# Altium integrated library TI Amplifiers and Linear Operational Amplifier High Speed.IntLib: 1100 symbols (part 10 of 44)
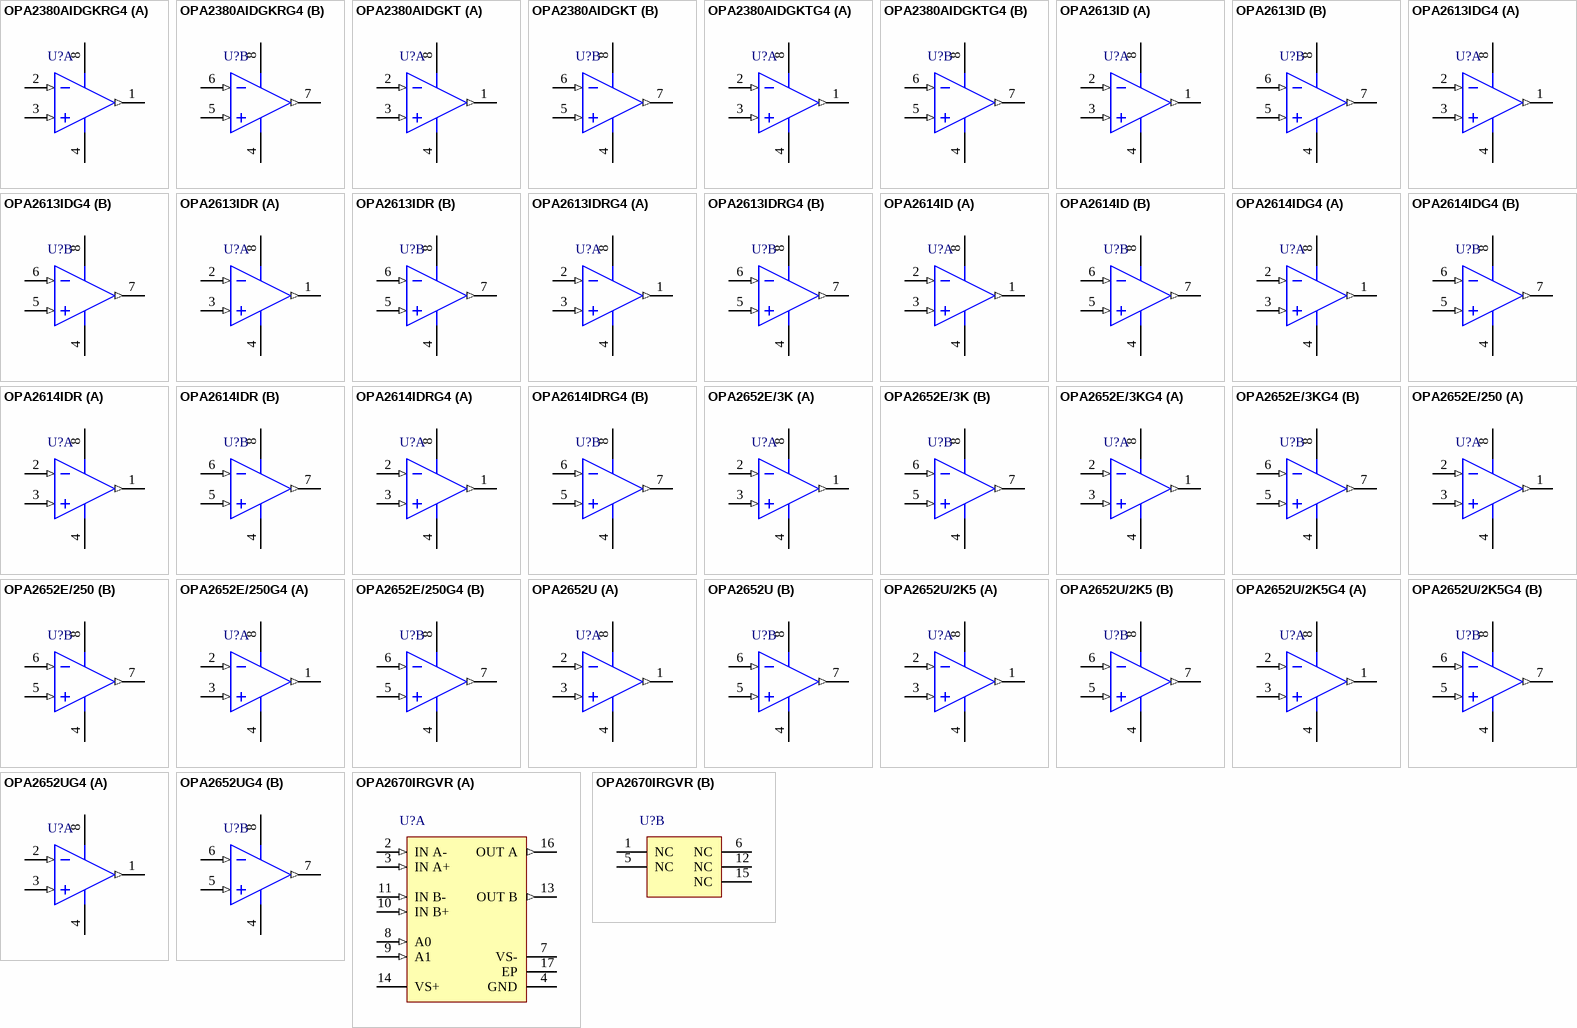
[diagram p60: symbols OPA2380AIDGKRG4 to OPA2670IRGVR]

## OPA2613ID
designator U?
Dual Wideband, High-Output Current, Operational Amplifier with Current Limit, 5 to 12 V, -40 to 85 degC, 8-pin SOIC (D8), Green (RoHS & no Sb/Br); Manufacturer: Texas Instruments; PartNumber: OPA2613ID; 2nd Harmonic(dBc): 95; 3rd Harmonic(dBc): 97; @ MHz: 1; BW @ Acl(MHz): 230; Diff Gain(%): 0.02; Diff Phase(deg): 0.03; Iib(Max)(nA): 14500; Io(Typ)(mA): 350; Iq per channel(Max)(mA): 6.5; Number of Channels: 2; Settling Time (0.1%)(Typ)(ns): 40; Slew Rate(Typ)(V/us): 70; Sub Family: High Output Current Amplifier (>=50mA), High Speed Amplifier (>=50MHz); THD (Fc is 1 MHz)(Typ)(dB): -83; Vn at Flatband(Typ)(nV/rtHz): 1.8; Vs(Max)(V): 12; Vs(Min)(V): 5; DatasheetVersion: SBOS249H; PackageVersion: 4040047-3/M, 06/2011; PackageReference: D8; PackageDescription: 8-Pin Plastic Small Outline, Body 4.9 x 3.9 mm, Pitch 1.27 mm; Supplier 1: Digi-Key; Supplier Part Number 1: 296-16916-5-ND; Supplier 2: Newark; Supplier Part Number 2: 01J0594; Supplier 3: Mouser; Supplier Part Number 3: 595-OPA2613ID; Acl, min stable gain(V/V): 1; Eco-Plan: Green (RoHS & no Sb/Br); Vio(Max)(mV): 1; Mounting Technology: Surface Mount; Code_JEDEC: MS-012; ComponentLink1Description: Manufacturer URL; ComponentLink1URL: http://www.ti.com/; ComponentLink2Description: Datasheet; ComponentLink2URL: http://www.ti.com/general/docs/lit/getliterature.tsp?genericPartNumber=OPA2613&fileType=pdf; ComponentLink3Description: Package Specification; ComponentLink3URL: http://www.ti.com/litv/pdf/msoi002j
footprint TI-D8_N (SOIC, 8-Leads, Body 4.9x3.9mm, Pitch 1.27mm, IPC Medium Density)
footprint TI-D8_L (SOIC, 8-Leads, Body 4.9x3.9mm, Pitch 1.27mm, IPC High Density)
footprint TI-D8_M (SOIC, 8-Leads, Body 4.9x3.9mm, Pitch 1.27mm, IPC Low Density)
pins on every part: 4 VS- (power), 8 VS+ (power)
part A pins: 1 OUT A (out), 2 IN A- (in), 3 IN A+ (in)
part B pins: 5 IN B+ (in), 6 IN B- (in), 7 OUT B (out)

## OPA2613IDG4
designator U?
Dual Wideband, High-Output Current, Operational Amplifier with Current Limit, 5 to 12 V, -40 to 85 degC, 8-pin SOIC (D8), Green (RoHS & no Sb/Br); Manufacturer: Texas Instruments; PartNumber: OPA2613IDG4; 2nd Harmonic(dBc): 95; 3rd Harmonic(dBc): 97; @ MHz: 1; BW @ Acl(MHz): 230; Diff Gain(%): 0.02; Diff Phase(deg): 0.03; Iib(Max)(nA): 14500; Io(Typ)(mA): 350; Iq per channel(Max)(mA): 6.5; Number of Channels: 2; Settling Time (0.1%)(Typ)(ns): 40; Slew Rate(Typ)(V/us): 70; Sub Family: High Output Current Amplifier (>=50mA), High Speed Amplifier (>=50MHz); THD (Fc is 1 MHz)(Typ)(dB): -83; Vn at Flatband(Typ)(nV/rtHz): 1.8; Vs(Max)(V): 12; Vs(Min)(V): 5; DatasheetVersion: SBOS249H; PackageVersion: 4040047-3/M, 06/2011; PackageReference: D8; PackageDescription: 8-Pin Plastic Small Outline, Body 4.9 x 3.9 mm, Pitch 1.27 mm; Supplier 1: Digi-Key; Supplier Part Number 1: OPA2613IDG4-ND; Supplier 2: Mouser; Supplier Part Number 2: 595-OPA2613IDG4; Acl, min stable gain(V/V): 1; Eco-Plan: Green (RoHS & no Sb/Br); Vio(Max)(mV): 1; Mounting Technology: Surface Mount; Code_JEDEC: MS-012; ComponentLink1Description: Manufacturer URL; ComponentLink1URL: http://www.ti.com/; ComponentLink2Description: Datasheet; ComponentLink2URL: http://www.ti.com/general/docs/lit/getliterature.tsp?genericPartNumber=OPA2613&fileType=pdf; ComponentLink3Description: Package Specification; ComponentLink3URL: http://www.ti.com/litv/pdf/msoi002j
footprint TI-D8_N (SOIC, 8-Leads, Body 4.9x3.9mm, Pitch 1.27mm, IPC Medium Density)
footprint TI-D8_L (SOIC, 8-Leads, Body 4.9x3.9mm, Pitch 1.27mm, IPC High Density)
footprint TI-D8_M (SOIC, 8-Leads, Body 4.9x3.9mm, Pitch 1.27mm, IPC Low Density)
pins on every part: 4 VS- (power), 8 VS+ (power)
part A pins: 1 OUT A (out), 2 IN A- (in), 3 IN A+ (in)
part B pins: 5 IN B+ (in), 6 IN B- (in), 7 OUT B (out)

## OPA2613IDR
designator U?
Dual Wideband, High-Output Current, Operational Amplifier with Current Limit, 5 to 12 V, -40 to 85 degC, 8-pin SOIC (D8), Green (RoHS & no Sb/Br); Manufacturer: Texas Instruments; PartNumber: OPA2613IDR; 2nd Harmonic(dBc): 95; 3rd Harmonic(dBc): 97; @ MHz: 1; BW @ Acl(MHz): 230; Diff Gain(%): 0.02; Diff Phase(deg): 0.03; Iib(Max)(nA): 14500; Io(Typ)(mA): 350; Iq per channel(Max)(mA): 6.5; Number of Channels: 2; Settling Time (0.1%)(Typ)(ns): 40; Slew Rate(Typ)(V/us): 70; Sub Family: High Output Current Amplifier (>=50mA), High Speed Amplifier (>=50MHz); THD (Fc is 1 MHz)(Typ)(dB): -83; Vn at Flatband(Typ)(nV/rtHz): 1.8; Vs(Max)(V): 12; Vs(Min)(V): 5; DatasheetVersion: SBOS249H; PackageVersion: 4040047-3/M, 06/2011; PackageReference: D8; PackageDescription: 8-Pin Plastic Small Outline, Body 4.9 x 3.9 mm, Pitch 1.27 mm; Supplier 1: Digi-Key; Supplier Part Number 1: OPA2613IDR-ND; Supplier 2: Mouser; Supplier Part Number 2: 595-OPA2613IDR; Acl, min stable gain(V/V): 1; Eco-Plan: Green (RoHS & no Sb/Br); Vio(Max)(mV): 1; Mounting Technology: Surface Mount; Code_JEDEC: MS-012; ComponentLink1Description: Manufacturer URL; ComponentLink1URL: http://www.ti.com/; ComponentLink2Description: Datasheet; ComponentLink2URL: http://www.ti.com/general/docs/lit/getliterature.tsp?genericPartNumber=OPA2613&fileType=pdf; ComponentLink3Description: Package Specification; ComponentLink3URL: http://www.ti.com/litv/pdf/msoi002j
footprint TI-D8_N (SOIC, 8-Leads, Body 4.9x3.9mm, Pitch 1.27mm, IPC Medium Density)
footprint TI-D8_L (SOIC, 8-Leads, Body 4.9x3.9mm, Pitch 1.27mm, IPC High Density)
footprint TI-D8_M (SOIC, 8-Leads, Body 4.9x3.9mm, Pitch 1.27mm, IPC Low Density)
pins on every part: 4 VS- (power), 8 VS+ (power)
part A pins: 1 OUT A (out), 2 IN A- (in), 3 IN A+ (in)
part B pins: 5 IN B+ (in), 6 IN B- (in), 7 OUT B (out)

## OPA2613IDRG4
designator U?
Dual Wideband, High-Output Current, Operational Amplifier with Current Limit, 5 to 12 V, -40 to 85 degC, 8-pin SOIC (D8), Green (RoHS & no Sb/Br); Manufacturer: Texas Instruments; PartNumber: OPA2613IDRG4; 2nd Harmonic(dBc): 95; 3rd Harmonic(dBc): 97; @ MHz: 1; BW @ Acl(MHz): 230; Diff Gain(%): 0.02; Diff Phase(deg): 0.03; Iib(Max)(nA): 14500; Io(Typ)(mA): 350; Iq per channel(Max)(mA): 6.5; Number of Channels: 2; Settling Time (0.1%)(Typ)(ns): 40; Slew Rate(Typ)(V/us): 70; Sub Family: High Output Current Amplifier (>=50mA), High Speed Amplifier (>=50MHz); THD (Fc is 1 MHz)(Typ)(dB): -83; Vn at Flatband(Typ)(nV/rtHz): 1.8; Vs(Max)(V): 12; Vs(Min)(V): 5; DatasheetVersion: SBOS249H; PackageVersion: 4040047-3/M, 06/2011; PackageReference: D8; PackageDescription: 8-Pin Plastic Small Outline, Body 4.9 x 3.9 mm, Pitch 1.27 mm; Supplier 1: Digi-Key; Supplier Part Number 1: OPA2613IDRG4-ND; Supplier 2: Newark; Supplier Part Number 2: 73K9241; Supplier 3: Mouser; Supplier Part Number 3: 595-OPA2613IDRG4; Acl, min stable gain(V/V): 1; Eco-Plan: Green (RoHS & no Sb/Br); Vio(Max)(mV): 1; Mounting Technology: Surface Mount; Code_JEDEC: MS-012; ComponentLink1Description: Manufacturer URL; ComponentLink1URL: http://www.ti.com/; ComponentLink2Description: Datasheet; ComponentLink2URL: http://www.ti.com/general/docs/lit/getliterature.tsp?genericPartNumber=OPA2613&fileType=pdf; ComponentLink3Description: Package Specification; ComponentLink3URL: http://www.ti.com/litv/pdf/msoi002j
footprint TI-D8_N (SOIC, 8-Leads, Body 4.9x3.9mm, Pitch 1.27mm, IPC Medium Density)
footprint TI-D8_L (SOIC, 8-Leads, Body 4.9x3.9mm, Pitch 1.27mm, IPC High Density)
footprint TI-D8_M (SOIC, 8-Leads, Body 4.9x3.9mm, Pitch 1.27mm, IPC Low Density)
pins on every part: 4 VS- (power), 8 VS+ (power)
part A pins: 1 OUT A (out), 2 IN A- (in), 3 IN A+ (in)
part B pins: 5 IN B+ (in), 6 IN B- (in), 7 OUT B (out)

## OPA2614ID
designator U?
Dual, High Gain Bandwidth, High Output Current, Operational Amplifier with Current Limit, 5 to 12 V, -40 to 85 degC, 8-pin SOIC (D8), Green (RoHS & no Sb/Br); Manufacturer: Texas Instruments; PartNumber: OPA2614ID; 2nd Harmonic(dBc): 92; 3rd Harmonic(dBc): 110; @ MHz: 1; Acl, min stable gain(V/V): 2; BW @ Acl(MHz): 180; Iib(Max)(nA): 14500; Io(Typ)(mA): 350; Iq per channel(Max)(mA): 6.5; Settling Time (0.1%)(Typ)(ns): 35; Slew Rate(Typ)(V/us): 145; Sub Family: High Output Current Amplifier (>=50mA), High Speed Amplifier (>=50MHz); THD (Fc is 1 MHz)(Typ)(dB): -75; Vn at Flatband(Typ)(nV/rtHz): 1.8; Vs(Max)(V): 12; Vs(Min)(V): 5; DatasheetVersion: SBOS305D; PackageVersion: 4040047-3/M, 06/2011; PackageReference: D8; PackageDescription: 8-Pin Plastic Small Outline, Body 4.9 x 3.9 mm, Pitch 1.27 mm; Supplier 1: Digi-Key; Supplier Part Number 1: 296-17127-5-ND; Supplier 2: Newark; Supplier Part Number 2: 21J8852; Supplier 3: Mouser; Supplier Part Number 3: 595-OPA2614ID; Eco-Plan: Green (RoHS & no Sb/Br); Number of Channels: 2; Vio(Max)(mV): 1; Mounting Technology: Surface Mount; Code_JEDEC: MS-012; ComponentLink1Description: Manufacturer URL; ComponentLink1URL: http://www.ti.com/; ComponentLink2Description: Datasheet; ComponentLink2URL: http://www.ti.com/general/docs/lit/getliterature.tsp?genericPartNumber=OPA2614&fileType=pdf; ComponentLink3Description: Package Specification; ComponentLink3URL: http://www.ti.com/litv/pdf/msoi002j
footprint TI-D8_N (SOIC, 8-Leads, Body 4.9x3.9mm, Pitch 1.27mm, IPC Medium Density)
footprint TI-D8_L (SOIC, 8-Leads, Body 4.9x3.9mm, Pitch 1.27mm, IPC High Density)
footprint TI-D8_M (SOIC, 8-Leads, Body 4.9x3.9mm, Pitch 1.27mm, IPC Low Density)
pins on every part: 4 VS- (power), 8 VS+ (power)
part A pins: 1 OUT A (out), 2 IN A- (in), 3 IN A+ (in)
part B pins: 5 IN B+ (in), 6 IN B- (in), 7 OUT B (out)

## OPA2614IDG4
designator U?
Dual, High Gain Bandwidth, High Output Current, Operational Amplifier with Current Limit, 5 to 12 V, -40 to 85 degC, 8-pin SOIC (D8), Green (RoHS & no Sb/Br); Manufacturer: Texas Instruments; PartNumber: OPA2614IDG4; 2nd Harmonic(dBc): 92; 3rd Harmonic(dBc): 110; @ MHz: 1; Acl, min stable gain(V/V): 2; BW @ Acl(MHz): 180; Iib(Max)(nA): 14500; Io(Typ)(mA): 350; Iq per channel(Max)(mA): 6.5; Settling Time (0.1%)(Typ)(ns): 35; Slew Rate(Typ)(V/us): 145; Sub Family: High Output Current Amplifier (>=50mA), High Speed Amplifier (>=50MHz); THD (Fc is 1 MHz)(Typ)(dB): -75; Vn at Flatband(Typ)(nV/rtHz): 1.8; Vs(Max)(V): 12; Vs(Min)(V): 5; DatasheetVersion: SBOS305D; PackageVersion: 4040047-3/M, 06/2011; PackageReference: D8; PackageDescription: 8-Pin Plastic Small Outline, Body 4.9 x 3.9 mm, Pitch 1.27 mm; Supplier 1: Digi-Key; Supplier Part Number 1: OPA2614IDG4-ND; Supplier 2: Mouser; Supplier Part Number 2: 595-OPA2614IDG4; Eco-Plan: Green (RoHS & no Sb/Br); Number of Channels: 2; Vio(Max)(mV): 1; Mounting Technology: Surface Mount; Code_JEDEC: MS-012; ComponentLink1Description: Manufacturer URL; ComponentLink1URL: http://www.ti.com/; ComponentLink2Description: Datasheet; ComponentLink2URL: http://www.ti.com/general/docs/lit/getliterature.tsp?genericPartNumber=OPA2614&fileType=pdf; ComponentLink3Description: Package Specification; ComponentLink3URL: http://www.ti.com/litv/pdf/msoi002j
footprint TI-D8_N (SOIC, 8-Leads, Body 4.9x3.9mm, Pitch 1.27mm, IPC Medium Density)
footprint TI-D8_L (SOIC, 8-Leads, Body 4.9x3.9mm, Pitch 1.27mm, IPC High Density)
footprint TI-D8_M (SOIC, 8-Leads, Body 4.9x3.9mm, Pitch 1.27mm, IPC Low Density)
pins on every part: 4 VS- (power), 8 VS+ (power)
part A pins: 1 OUT A (out), 2 IN A- (in), 3 IN A+ (in)
part B pins: 5 IN B+ (in), 6 IN B- (in), 7 OUT B (out)

## OPA2614IDR
designator U?
Dual, High Gain Bandwidth, High Output Current, Operational Amplifier with Current Limit, 5 to 12 V, -40 to 85 degC, 8-pin SOIC (D8), Green (RoHS & no Sb/Br); Manufacturer: Texas Instruments; PartNumber: OPA2614IDR; 2nd Harmonic(dBc): 92; 3rd Harmonic(dBc): 110; @ MHz: 1; Acl, min stable gain(V/V): 2; BW @ Acl(MHz): 180; Iib(Max)(nA): 14500; Io(Typ)(mA): 350; Iq per channel(Max)(mA): 6.5; Settling Time (0.1%)(Typ)(ns): 35; Slew Rate(Typ)(V/us): 145; Sub Family: High Output Current Amplifier (>=50mA), High Speed Amplifier (>=50MHz); THD (Fc is 1 MHz)(Typ)(dB): -75; Vn at Flatband(Typ)(nV/rtHz): 1.8; Vs(Max)(V): 12; Vs(Min)(V): 5; DatasheetVersion: SBOS305D; PackageVersion: 4040047-3/M, 06/2011; PackageReference: D8; PackageDescription: 8-Pin Plastic Small Outline, Body 4.9 x 3.9 mm, Pitch 1.27 mm; Supplier 1: Digi-Key; Supplier Part Number 1: OPA2614IDR-ND; Supplier 2: Mouser; Supplier Part Number 2: 595-OPA2614IDR; Eco-Plan: Green (RoHS & no Sb/Br); Number of Channels: 2; Vio(Max)(mV): 1; Mounting Technology: Surface Mount; Code_JEDEC: MS-012; ComponentLink1Description: Manufacturer URL; ComponentLink1URL: http://www.ti.com/; ComponentLink2Description: Datasheet; ComponentLink2URL: http://www.ti.com/general/docs/lit/getliterature.tsp?genericPartNumber=OPA2614&fileType=pdf; ComponentLink3Description: Package Specification; ComponentLink3URL: http://www.ti.com/litv/pdf/msoi002j
footprint TI-D8_N (SOIC, 8-Leads, Body 4.9x3.9mm, Pitch 1.27mm, IPC Medium Density)
footprint TI-D8_L (SOIC, 8-Leads, Body 4.9x3.9mm, Pitch 1.27mm, IPC High Density)
footprint TI-D8_M (SOIC, 8-Leads, Body 4.9x3.9mm, Pitch 1.27mm, IPC Low Density)
pins on every part: 4 VS- (power), 8 VS+ (power)
part A pins: 1 OUT A (out), 2 IN A- (in), 3 IN A+ (in)
part B pins: 5 IN B+ (in), 6 IN B- (in), 7 OUT B (out)

## OPA2614IDRG4
designator U?
Dual, High Gain Bandwidth, High Output Current, Operational Amplifier with Current Limit, 5 to 12 V, -40 to 85 degC, 8-pin SOIC (D8), Green (RoHS & no Sb/Br); Manufacturer: Texas Instruments; PartNumber: OPA2614IDRG4; 2nd Harmonic(dBc): 92; 3rd Harmonic(dBc): 110; @ MHz: 1; Acl, min stable gain(V/V): 2; BW @ Acl(MHz): 180; Iib(Max)(nA): 14500; Io(Typ)(mA): 350; Iq per channel(Max)(mA): 6.5; Settling Time (0.1%)(Typ)(ns): 35; Slew Rate(Typ)(V/us): 145; Sub Family: High Output Current Amplifier (>=50mA), High Speed Amplifier (>=50MHz); THD (Fc is 1 MHz)(Typ)(dB): -75; Vn at Flatband(Typ)(nV/rtHz): 1.8; Vs(Max)(V): 12; Vs(Min)(V): 5; DatasheetVersion: SBOS305D; PackageVersion: 4040047-3/M, 06/2011; PackageReference: D8; PackageDescription: 8-Pin Plastic Small Outline, Body 4.9 x 3.9 mm, Pitch 1.27 mm; Supplier 1: Digi-Key; Supplier Part Number 1: OPA2614IDRG4-ND; Supplier 2: Mouser; Supplier Part Number 2: 595-OPA2614IDRG4; Eco-Plan: Green (RoHS & no Sb/Br); Number of Channels: 2; Vio(Max)(mV): 1; Mounting Technology: Surface Mount; Code_JEDEC: MS-012; ComponentLink1Description: Manufacturer URL; ComponentLink1URL: http://www.ti.com/; ComponentLink2Description: Datasheet; ComponentLink2URL: http://www.ti.com/general/docs/lit/getliterature.tsp?genericPartNumber=OPA2614&fileType=pdf; ComponentLink3Description: Package Specification; ComponentLink3URL: http://www.ti.com/litv/pdf/msoi002j
footprint TI-D8_N (SOIC, 8-Leads, Body 4.9x3.9mm, Pitch 1.27mm, IPC Medium Density)
footprint TI-D8_L (SOIC, 8-Leads, Body 4.9x3.9mm, Pitch 1.27mm, IPC High Density)
footprint TI-D8_M (SOIC, 8-Leads, Body 4.9x3.9mm, Pitch 1.27mm, IPC Low Density)
pins on every part: 4 VS- (power), 8 VS+ (power)
part A pins: 1 OUT A (out), 2 IN A- (in), 3 IN A+ (in)
part B pins: 5 IN B+ (in), 6 IN B- (in), 7 OUT B (out)

## OPA2652E/3K
designator U?
SpeedPlus(TM) Dual, 700 MHz, Voltage-Feedback Operational Amplifier, 6 to 12 V, -40 to 85 degC, 8-pin SOP (DCN8), Green (RoHS & no Sb/Br); Manufacturer: Texas Instruments; PartNumber: OPA2652E/3K; 2nd Harmonic(dBc): 83; 3rd Harmonic(dBc): 85; @ MHz: 5; Acl, min stable gain(V/V): 1; BW @ Acl(MHz): 700; Diff Gain(%): 0.05; Diff Phase(deg): 0.03; Iib(Max)(nA): 25000; Io(Typ)(mA): 140; Iq per channel(Max)(mA): 7.75; Number of Channels: 2; Slew Rate(Typ)(V/us): 335; Sub Family: High Output Current Amplifier (>=50mA), High Speed Amplifier (>=50MHz); THD (Fc is 1 MHz)(Typ)(dB): -77; Vio(Max)(mV): 7; Vn at Flatband(Typ)(nV/rtHz): 8; Vs(Max)(V): 12; Vs(Min)(V): 6; DatasheetVersion: SBOS125A; PackageVersion: 4202106/D, 11/2009; PackageReference: DCN8; PackageDescription: 8-Pin Plastic Small Outline, Body 1.6 x 2.9 mm, Pitch 0.65 mm; Supplier 1: Digi-Key; Supplier Part Number 1: OPA2652E/3K-ND; Supplier 2: Mouser; Supplier Part Number 2: 595-OPA2652E/3K; Eco-Plan: Green (RoHS & no Sb/Br); Mounting Technology: Surface Mount; Code_JEDEC: MO-178; ComponentLink1Description: Manufacturer URL; ComponentLink1URL: http://www.ti.com/; ComponentLink2Description: Datasheet; ComponentLink2URL: http://www.ti.com/general/docs/lit/getliterature.tsp?genericPartNumber=OPA2652&fileType=pdf; ComponentLink3Description: Package Specification; ComponentLink3URL: http://www.ti.com/lit/ml/mpds099c/mpds099c.pdf
footprint TI-DCN8_N (SOP, 8-Leads, Body 2.9x1.6mm, Pitch 0.65mm, IPC Medium Density)
footprint TI-DCN8_L (SOP, 8-Leads, Body 2.9x1.6mm, Pitch 0.65mm, IPC High Density)
footprint TI-DCN8_M (SOP, 8-Leads, Body 2.9x1.6mm, Pitch 0.65mm, IPC Low Density)
pins on every part: 4 VS- (power), 8 VS+ (power)
part A pins: 1 OUT A (out), 2 IN A- (in), 3 IN A+ (in)
part B pins: 5 IN B+ (in), 6 IN B- (in), 7 OUT B (out)

## OPA2652E/3KG4
designator U?
SpeedPlus(TM) Dual, 700 MHz, Voltage-Feedback Operational Amplifier, 6 to 12 V, -40 to 85 degC, 8-pin SOP (DCN8), Green (RoHS & no Sb/Br); Manufacturer: Texas Instruments; PartNumber: OPA2652E/3KG4; 2nd Harmonic(dBc): 83; 3rd Harmonic(dBc): 85; @ MHz: 5; Acl, min stable gain(V/V): 1; BW @ Acl(MHz): 700; Diff Gain(%): 0.05; Diff Phase(deg): 0.03; Iib(Max)(nA): 25000; Io(Typ)(mA): 140; Iq per channel(Max)(mA): 7.75; Number of Channels: 2; Slew Rate(Typ)(V/us): 335; Sub Family: High Output Current Amplifier (>=50mA), High Speed Amplifier (>=50MHz); THD (Fc is 1 MHz)(Typ)(dB): -77; Vio(Max)(mV): 7; Vn at Flatband(Typ)(nV/rtHz): 8; Vs(Max)(V): 12; Vs(Min)(V): 6; DatasheetVersion: SBOS125A; PackageVersion: 4202106/D, 11/2009; PackageReference: DCN8; PackageDescription: 8-Pin Plastic Small Outline, Body 1.6 x 2.9 mm, Pitch 0.65 mm; Supplier 1: Digi-Key; Supplier Part Number 1: OPA2652E/3KG4-ND; Supplier 2: Newark; Supplier Part Number 2: 03M9394; Supplier 3: Mouser; Supplier Part Number 3: 595-OPA2652E/3KG4; Eco-Plan: Green (RoHS & no Sb/Br); Mounting Technology: Surface Mount; Code_JEDEC: MO-178; ComponentLink1Description: Manufacturer URL; ComponentLink1URL: http://www.ti.com/; ComponentLink2Description: Datasheet; ComponentLink2URL: http://www.ti.com/general/docs/lit/getliterature.tsp?genericPartNumber=OPA2652&fileType=pdf; ComponentLink3Description: Package Specification; ComponentLink3URL: http://www.ti.com/lit/ml/mpds099c/mpds099c.pdf
footprint TI-DCN8_N (SOP, 8-Leads, Body 2.9x1.6mm, Pitch 0.65mm, IPC Medium Density)
footprint TI-DCN8_L (SOP, 8-Leads, Body 2.9x1.6mm, Pitch 0.65mm, IPC High Density)
footprint TI-DCN8_M (SOP, 8-Leads, Body 2.9x1.6mm, Pitch 0.65mm, IPC Low Density)
pins on every part: 4 VS- (power), 8 VS+ (power)
part A pins: 1 OUT A (out), 2 IN A- (in), 3 IN A+ (in)
part B pins: 5 IN B+ (in), 6 IN B- (in), 7 OUT B (out)

## OPA2652E/250
designator U?
SpeedPlus(TM) Dual, 700 MHz, Voltage-Feedback Operational Amplifier, 6 to 12 V, -40 to 85 degC, 8-pin SOP (DCN8), Green (RoHS & no Sb/Br); Manufacturer: Texas Instruments; PartNumber: OPA2652E/250; 2nd Harmonic(dBc): 83; 3rd Harmonic(dBc): 85; @ MHz: 5; Acl, min stable gain(V/V): 1; BW @ Acl(MHz): 700; Diff Gain(%): 0.05; Diff Phase(deg): 0.03; Iib(Max)(nA): 25000; Io(Typ)(mA): 140; Iq per channel(Max)(mA): 7.75; Number of Channels: 2; Slew Rate(Typ)(V/us): 335; Sub Family: High Output Current Amplifier (>=50mA), High Speed Amplifier (>=50MHz); THD (Fc is 1 MHz)(Typ)(dB): -77; Vio(Max)(mV): 7; Vn at Flatband(Typ)(nV/rtHz): 8; Vs(Max)(V): 12; Vs(Min)(V): 6; DatasheetVersion: SBOS125A; PackageVersion: 4202106/D, 11/2009; PackageReference: DCN8; PackageDescription: 8-Pin Plastic Small Outline, Body 1.6 x 2.9 mm, Pitch 0.65 mm; Supplier 1: Digi-Key; Supplier Part Number 1: OPA2652ETR-ND; Supplier 2: Digi-Key; Supplier Part Number 2: OPA2652ECT-ND; Supplier 3: Digi-Key; Supplier Part Number 3: OPA2652EDKR-ND; Supplier 4: Newark; Supplier Part Number 4: 75C4770; Supplier 5: Mouser; Supplier Part Number 5: 595-OPA2652E/250; Eco-Plan: Green (RoHS & no Sb/Br); Mounting Technology: Surface Mount; Code_JEDEC: MO-178; ComponentLink1Description: Manufacturer URL; ComponentLink1URL: http://www.ti.com/; ComponentLink2Description: Datasheet; ComponentLink2URL: http://www.ti.com/general/docs/lit/getliterature.tsp?genericPartNumber=OPA2652&fileType=pdf; ComponentLink3Description: Package Specification; ComponentLink3URL: http://www.ti.com/lit/ml/mpds099c/mpds099c.pdf
footprint TI-DCN8_N (SOP, 8-Leads, Body 2.9x1.6mm, Pitch 0.65mm, IPC Medium Density)
footprint TI-DCN8_L (SOP, 8-Leads, Body 2.9x1.6mm, Pitch 0.65mm, IPC High Density)
footprint TI-DCN8_M (SOP, 8-Leads, Body 2.9x1.6mm, Pitch 0.65mm, IPC Low Density)
pins on every part: 4 VS- (power), 8 VS+ (power)
part A pins: 1 OUT A (out), 2 IN A- (in), 3 IN A+ (in)
part B pins: 5 IN B+ (in), 6 IN B- (in), 7 OUT B (out)

## OPA2652E/250G4
designator U?
SpeedPlus(TM) Dual, 700 MHz, Voltage-Feedback Operational Amplifier, 6 to 12 V, -40 to 85 degC, 8-pin SOP (DCN8), Green (RoHS & no Sb/Br); Manufacturer: Texas Instruments; PartNumber: OPA2652E/250G4; 2nd Harmonic(dBc): 83; 3rd Harmonic(dBc): 85; @ MHz: 5; Acl, min stable gain(V/V): 1; BW @ Acl(MHz): 700; Diff Gain(%): 0.05; Diff Phase(deg): 0.03; Iib(Max)(nA): 25000; Io(Typ)(mA): 140; Iq per channel(Max)(mA): 7.75; Number of Channels: 2; Slew Rate(Typ)(V/us): 335; Sub Family: High Output Current Amplifier (>=50mA), High Speed Amplifier (>=50MHz); THD (Fc is 1 MHz)(Typ)(dB): -77; Vio(Max)(mV): 7; Vn at Flatband(Typ)(nV/rtHz): 8; Vs(Max)(V): 12; Vs(Min)(V): 6; DatasheetVersion: SBOS125A; PackageVersion: 4202106/D, 11/2009; PackageReference: DCN8; PackageDescription: 8-Pin Plastic Small Outline, Body 1.6 x 2.9 mm, Pitch 0.65 mm; Supplier 1: Digi-Key; Supplier Part Number 1: OPA2652E/250G4-ND; Supplier 2: Mouser; Supplier Part Number 2: 595-OPA2652E/250G4; Eco-Plan: Green (RoHS & no Sb/Br); Mounting Technology: Surface Mount; Code_JEDEC: MO-178; ComponentLink1Description: Manufacturer URL; ComponentLink1URL: http://www.ti.com/; ComponentLink2Description: Datasheet; ComponentLink2URL: http://www.ti.com/general/docs/lit/getliterature.tsp?genericPartNumber=OPA2652&fileType=pdf; ComponentLink3Description: Package Specification; ComponentLink3URL: http://www.ti.com/lit/ml/mpds099c/mpds099c.pdf
footprint TI-DCN8_N (SOP, 8-Leads, Body 2.9x1.6mm, Pitch 0.65mm, IPC Medium Density)
footprint TI-DCN8_L (SOP, 8-Leads, Body 2.9x1.6mm, Pitch 0.65mm, IPC High Density)
footprint TI-DCN8_M (SOP, 8-Leads, Body 2.9x1.6mm, Pitch 0.65mm, IPC Low Density)
pins on every part: 4 VS- (power), 8 VS+ (power)
part A pins: 1 OUT A (out), 2 IN A- (in), 3 IN A+ (in)
part B pins: 5 IN B+ (in), 6 IN B- (in), 7 OUT B (out)

## OPA2652U
designator U?
SpeedPlus(TM) Dual, 700 MHz, Voltage-Feedback Operational Amplifier, 6 to 12 V, -40 to 85 degC, 8-pin SOIC (D8), Green (RoHS & no Sb/Br); Manufacturer: Texas Instruments; PartNumber: OPA2652U; 2nd Harmonic(dBc): 83; 3rd Harmonic(dBc): 85; @ MHz: 5; Acl, min stable gain(V/V): 1; BW @ Acl(MHz): 700; Diff Gain(%): 0.05; Diff Phase(deg): 0.03; Iib(Max)(nA): 25000; Io(Typ)(mA): 140; Iq per channel(Max)(mA): 7.75; Number of Channels: 2; Slew Rate(Typ)(V/us): 335; Sub Family: High Output Current Amplifier (>=50mA), High Speed Amplifier (>=50MHz); THD (Fc is 1 MHz)(Typ)(dB): -77; Vio(Max)(mV): 7; Vn at Flatband(Typ)(nV/rtHz): 8; Vs(Max)(V): 12; Vs(Min)(V): 6; DatasheetVersion: SBOS125A; PackageVersion: 4040047-3/M, 06/2011; PackageReference: D8; PackageDescription: 8-Pin Plastic Small Outline, Body 4.9 x 3.9 mm, Pitch 1.27 mm; Supplier 1: Digi-Key; Supplier Part Number 1: OPA2652U-ND; Supplier 2: Newark; Supplier Part Number 2: 35C1880; Supplier 3: Mouser; Supplier Part Number 3: 595-OPA2652U; Eco-Plan: Green (RoHS & no Sb/Br); Mounting Technology: Surface Mount; Code_JEDEC: MS-012; ComponentLink1Description: Manufacturer URL; ComponentLink1URL: http://www.ti.com/; ComponentLink2Description: Datasheet; ComponentLink2URL: http://www.ti.com/general/docs/lit/getliterature.tsp?genericPartNumber=OPA2652&fileType=pdf; ComponentLink3Description: Package Specification; ComponentLink3URL: http://www.ti.com/litv/pdf/msoi002j
footprint TI-D8_N (SOIC, 8-Leads, Body 4.9x3.9mm, Pitch 1.27mm, IPC Medium Density)
footprint TI-D8_L (SOIC, 8-Leads, Body 4.9x3.9mm, Pitch 1.27mm, IPC High Density)
footprint TI-D8_M (SOIC, 8-Leads, Body 4.9x3.9mm, Pitch 1.27mm, IPC Low Density)
pins on every part: 4 VS- (power), 8 VS+ (power)
part A pins: 1 OUT A (out), 2 IN A- (in), 3 IN A+ (in)
part B pins: 5 IN B+ (in), 6 IN B- (in), 7 OUT B (out)

## OPA2652U/2K5
designator U?
SpeedPlus(TM) Dual, 700 MHz, Voltage-Feedback Operational Amplifier, 6 to 12 V, -40 to 85 degC, 8-pin SOIC (D8), Green (RoHS & no Sb/Br); Manufacturer: Texas Instruments; PartNumber: OPA2652U/2K5; 2nd Harmonic(dBc): 83; 3rd Harmonic(dBc): 85; @ MHz: 5; Acl, min stable gain(V/V): 1; BW @ Acl(MHz): 700; Diff Gain(%): 0.05; Diff Phase(deg): 0.03; Iib(Max)(nA): 25000; Io(Typ)(mA): 140; Iq per channel(Max)(mA): 7.75; Number of Channels: 2; Slew Rate(Typ)(V/us): 335; Sub Family: High Output Current Amplifier (>=50mA), High Speed Amplifier (>=50MHz); THD (Fc is 1 MHz)(Typ)(dB): -77; Vio(Max)(mV): 7; Vn at Flatband(Typ)(nV/rtHz): 8; Vs(Max)(V): 12; Vs(Min)(V): 6; DatasheetVersion: SBOS125A; PackageVersion: 4040047-3/M, 06/2011; PackageReference: D8; PackageDescription: 8-Pin Plastic Small Outline, Body 4.9 x 3.9 mm, Pitch 1.27 mm; Supplier 1: Digi-Key; Supplier Part Number 1: OPA2652U/2K5-ND; Supplier 2: Mouser; Supplier Part Number 2: 595-OPA2652U/2K5; Eco-Plan: Green (RoHS & no Sb/Br); Mounting Technology: Surface Mount; Code_JEDEC: MS-012; ComponentLink1Description: Manufacturer URL; ComponentLink1URL: http://www.ti.com/; ComponentLink2Description: Datasheet; ComponentLink2URL: http://www.ti.com/general/docs/lit/getliterature.tsp?genericPartNumber=OPA2652&fileType=pdf; ComponentLink3Description: Package Specification; ComponentLink3URL: http://www.ti.com/litv/pdf/msoi002j
footprint TI-D8_N (SOIC, 8-Leads, Body 4.9x3.9mm, Pitch 1.27mm, IPC Medium Density)
footprint TI-D8_L (SOIC, 8-Leads, Body 4.9x3.9mm, Pitch 1.27mm, IPC High Density)
footprint TI-D8_M (SOIC, 8-Leads, Body 4.9x3.9mm, Pitch 1.27mm, IPC Low Density)
pins on every part: 4 VS- (power), 8 VS+ (power)
part A pins: 1 OUT A (out), 2 IN A- (in), 3 IN A+ (in)
part B pins: 5 IN B+ (in), 6 IN B- (in), 7 OUT B (out)

## OPA2652U/2K5G4
designator U?
SpeedPlus(TM) Dual, 700 MHz, Voltage-Feedback Operational Amplifier, 6 to 12 V, -40 to 85 degC, 8-pin SOIC (D8), Green (RoHS & no Sb/Br); Manufacturer: Texas Instruments; PartNumber: OPA2652U/2K5G4; 2nd Harmonic(dBc): 83; 3rd Harmonic(dBc): 85; @ MHz: 5; Acl, min stable gain(V/V): 1; BW @ Acl(MHz): 700; Diff Gain(%): 0.05; Diff Phase(deg): 0.03; Iib(Max)(nA): 25000; Io(Typ)(mA): 140; Iq per channel(Max)(mA): 7.75; Number of Channels: 2; Slew Rate(Typ)(V/us): 335; Sub Family: High Output Current Amplifier (>=50mA), High Speed Amplifier (>=50MHz); THD (Fc is 1 MHz)(Typ)(dB): -77; Vio(Max)(mV): 7; Vn at Flatband(Typ)(nV/rtHz): 8; Vs(Max)(V): 12; Vs(Min)(V): 6; DatasheetVersion: SBOS125A; PackageVersion: 4040047-3/M, 06/2011; PackageReference: D8; PackageDescription: 8-Pin Plastic Small Outline, Body 4.9 x 3.9 mm, Pitch 1.27 mm; Supplier 1: Digi-Key; Supplier Part Number 1: OPA2652U/2K5G4-ND; Supplier 2: Mouser; Supplier Part Number 2: 595-OPA2652U/2K5G4; Eco-Plan: Green (RoHS & no Sb/Br); Mounting Technology: Surface Mount; Code_JEDEC: MS-012; ComponentLink1Description: Manufacturer URL; ComponentLink1URL: http://www.ti.com/; ComponentLink2Description: Datasheet; ComponentLink2URL: http://www.ti.com/general/docs/lit/getliterature.tsp?genericPartNumber=OPA2652&fileType=pdf; ComponentLink3Description: Package Specification; ComponentLink3URL: http://www.ti.com/litv/pdf/msoi002j
footprint TI-D8_N (SOIC, 8-Leads, Body 4.9x3.9mm, Pitch 1.27mm, IPC Medium Density)
footprint TI-D8_L (SOIC, 8-Leads, Body 4.9x3.9mm, Pitch 1.27mm, IPC High Density)
footprint TI-D8_M (SOIC, 8-Leads, Body 4.9x3.9mm, Pitch 1.27mm, IPC Low Density)
pins on every part: 4 VS- (power), 8 VS+ (power)
part A pins: 1 OUT A (out), 2 IN A- (in), 3 IN A+ (in)
part B pins: 5 IN B+ (in), 6 IN B- (in), 7 OUT B (out)

## OPA2652UG4
designator U?
SpeedPlus(TM) Dual, 700 MHz, Voltage-Feedback Operational Amplifier, 6 to 12 V, -40 to 85 degC, 8-pin SOIC (D8), Green (RoHS & no Sb/Br); Manufacturer: Texas Instruments; PartNumber: OPA2652UG4; 2nd Harmonic(dBc): 83; 3rd Harmonic(dBc): 85; @ MHz: 5; Acl, min stable gain(V/V): 1; BW @ Acl(MHz): 700; Diff Gain(%): 0.05; Diff Phase(deg): 0.03; Iib(Max)(nA): 25000; Io(Typ)(mA): 140; Iq per channel(Max)(mA): 7.75; Number of Channels: 2; Slew Rate(Typ)(V/us): 335; Sub Family: High Output Current Amplifier (>=50mA), High Speed Amplifier (>=50MHz); THD (Fc is 1 MHz)(Typ)(dB): -77; Vio(Max)(mV): 7; Vn at Flatband(Typ)(nV/rtHz): 8; Vs(Max)(V): 12; Vs(Min)(V): 6; DatasheetVersion: SBOS125A; PackageVersion: 4040047-3/M, 06/2011; PackageReference: D8; PackageDescription: 8-Pin Plastic Small Outline, Body 4.9 x 3.9 mm, Pitch 1.27 mm; Supplier 1: Digi-Key; Supplier Part Number 1: OPA2652UG4-ND; Supplier 2: Farnell; Supplier Part Number 2: 1305159; Supplier 3: Newark; Supplier Part Number 3: 24M5447; Supplier 4: Newark; Supplier Part Number 4: 58K5926; Supplier 5: Mouser; Supplier Part Number 5: 595-OPA2652UG4; Eco-Plan: Green (RoHS & no Sb/Br); Mounting Technology: Surface Mount; Code_JEDEC: MS-012; ComponentLink1Description: Manufacturer URL; ComponentLink1URL: http://www.ti.com/; ComponentLink2Description: Datasheet; ComponentLink2URL: http://www.ti.com/general/docs/lit/getliterature.tsp?genericPartNumber=OPA2652&fileType=pdf; ComponentLink3Description: Package Specification; ComponentLink3URL: http://www.ti.com/litv/pdf/msoi002j
footprint TI-D8_N (SOIC, 8-Leads, Body 4.9x3.9mm, Pitch 1.27mm, IPC Medium Density)
footprint TI-D8_L (SOIC, 8-Leads, Body 4.9x3.9mm, Pitch 1.27mm, IPC High Density)
footprint TI-D8_M (SOIC, 8-Leads, Body 4.9x3.9mm, Pitch 1.27mm, IPC Low Density)
pins on every part: 4 VS- (power), 8 VS+ (power)
part A pins: 1 OUT A (out), 2 IN A- (in), 3 IN A+ (in)
part B pins: 5 IN B+ (in), 6 IN B- (in), 7 OUT B (out)

## OPA2670IRGVR
designator U?
Single Port, High Output Current VDSL2 Line Driver with Power Control, 5.5 to 12.6 V, -40 to 85 degC, 16-pin QFN (RGV16), Green (RoHS & no Sb/Br); Manufacturer: Texas Instruments; PartNumber: OPA2670IRGVR; 2nd Harmonic(dBc): 71; 3rd Harmonic(dBc): 80; @ MHz: 10; Acl, min stable gain(V/V): 1; BW @ Acl(MHz): 420; Iib(Max)(nA): 34000; Io(Typ)(mA): 700; Iq per channel(Max)(mA): 15.75; Number of Channels: 2; Slew Rate(Typ)(V/us): 5000; Sub Family: High Output Current Amplifier (>=50mA), High Speed Amplifier (>=50MHz); Vio(Max)(mV): 6; Vn at Flatband(Typ)(nV/rtHz): 3.6; Vs(Max)(V): 12.6; Vs(Min)(V): 5.5; DatasheetVersion: SBOS434; PackageVersion: 4203497/F, 06/2011; PackageReference: RGV16-2160X2160TP; PackageDescription: 16-Pin Plastic Quad Flatpack No-Lead, Body 4 x 4 mm, Pitch 0.65 mm; Supplier 1: Digi-Key; Supplier Part Number 1: OPA2670IRGVR-ND; Supplier 2: Mouser; Supplier Part Number 2: 595-OPA2670IRGVR; Eco-Plan: Green (RoHS & no Sb/Br); Mounting Technology: Surface Mount; Code_JEDEC: MO-220; ComponentLink1Description: Manufacturer URL; ComponentLink1URL: http://www.ti.com/; ComponentLink2Description: Datasheet; ComponentLink2URL: http://www.ti.com/general/docs/lit/getliterature.tsp?genericPartNumber=OPA2670&fileType=pdf; ComponentLink3Description: Package Specification; ComponentLink3URL: http://www.ti.com/litv/pdf/mpqf121e
footprint TI-RGV16-2160X2160TP_V (QFN, 16-Leads, Body 4x4mm, Pitch 0.65mm, Thermal Pad 2.16 x 2.16mm)
part A pins: 2 IN A- (in), 3 IN A+ (in), 4 GND (power), 7 VS- (power), 8 A0 (in), 9 A1 (in), 10 IN B+ (in), 11 IN B- (in), 13 OUT B (out), 14 VS+ (power), 16 OUT A (out), 17 EP
part B pins: 1 NC, 5 NC, 6 NC, 12 NC, 15 NC

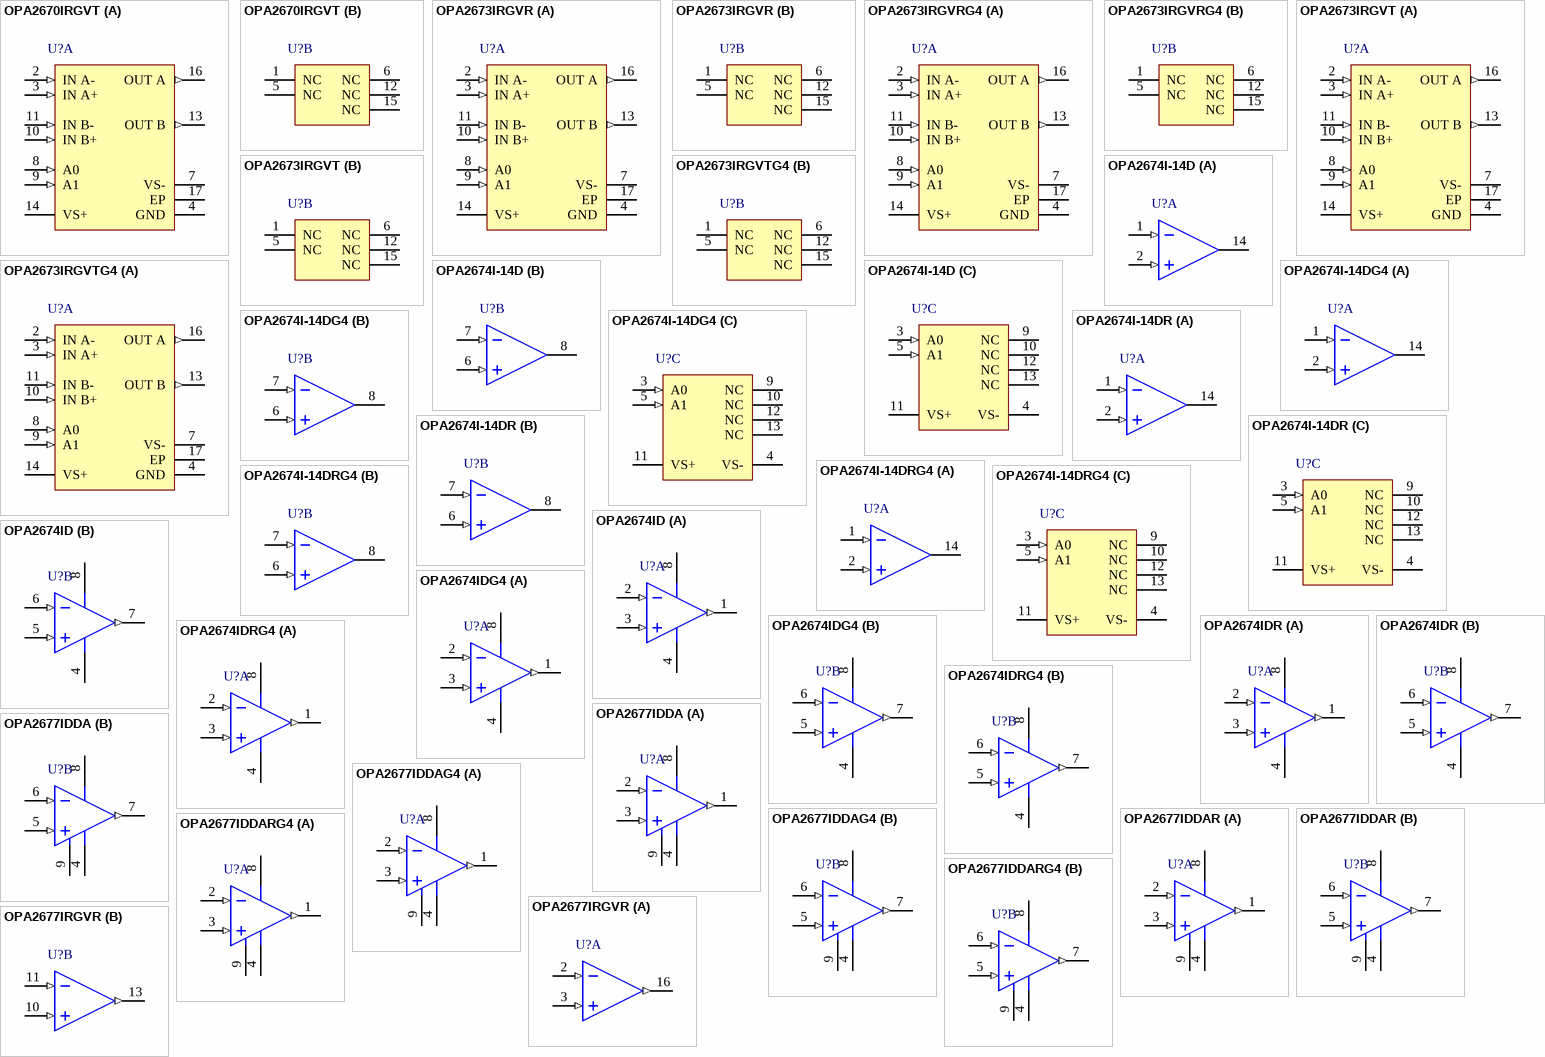
[diagram p9: symbols OPA2670IRGVT to OPA2677IRGVR]

## OPA2670IRGVT
designator U?
Single Port, High Output Current VDSL2 Line Driver with Power Control, 5.5 to 12.6 V, -40 to 85 degC, 16-pin QFN (RGV16), Green (RoHS & no Sb/Br); Manufacturer: Texas Instruments; PartNumber: OPA2670IRGVT; 2nd Harmonic(dBc): 71; 3rd Harmonic(dBc): 80; @ MHz: 10; Acl, min stable gain(V/V): 1; BW @ Acl(MHz): 420; Iib(Max)(nA): 34000; Io(Typ)(mA): 700; Iq per channel(Max)(mA): 15.75; Number of Channels: 2; Slew Rate(Typ)(V/us): 5000; Sub Family: High Output Current Amplifier (>=50mA), High Speed Amplifier (>=50MHz); Vio(Max)(mV): 6; Vn at Flatband(Typ)(nV/rtHz): 3.6; Vs(Max)(V): 12.6; Vs(Min)(V): 5.5; DatasheetVersion: SBOS434; PackageVersion: 4203497/F, 06/2011; PackageReference: RGV16-2160X2160TP; PackageDescription: 16-Pin Plastic Quad Flatpack No-Lead, Body 4 x 4 mm, Pitch 0.65 mm; Supplier 1: Digi-Key; Supplier Part Number 1: 296-27857-2-ND; Supplier 2: Digi-Key; Supplier Part Number 2: 296-27857-1-ND; Supplier 3: Digi-Key; Supplier Part Number 3: 296-27857-6-ND; Supplier 4: Farnell; Supplier Part Number 4: 1855121; Supplier 5: Newark; Supplier Part Number 5: 01T0593; Supplier 6: Mouser; Supplier Part Number 6: 595-OPA2670IRGVT; Eco-Plan: Green (RoHS & no Sb/Br); Mounting Technology: Surface Mount; Code_JEDEC: MO-220; ComponentLink1Description: Manufacturer URL; ComponentLink1URL: http://www.ti.com/; ComponentLink2Description: Datasheet; ComponentLink2URL: http://www.ti.com/general/docs/lit/getliterature.tsp?genericPartNumber=OPA2670&fileType=pdf; ComponentLink3Description: Package Specification; ComponentLink3URL: http://www.ti.com/litv/pdf/mpqf121e
footprint TI-RGV16-2160X2160TP_V (QFN, 16-Leads, Body 4x4mm, Pitch 0.65mm, Thermal Pad 2.16 x 2.16mm)
part A pins: 2 IN A- (in), 3 IN A+ (in), 4 GND (power), 7 VS- (power), 8 A0 (in), 9 A1 (in), 10 IN B+ (in), 11 IN B- (in), 13 OUT B (out), 14 VS+ (power), 16 OUT A (out), 17 EP
part B pins: 1 NC, 5 NC, 6 NC, 12 NC, 15 NC

## OPA2673IRGVR
designator U?
Dual, Wideband, High Output Current Operational Amplifier with Active Off-Line Control, 7 to 13 V, -40 to 85 degC, 16-pin QFN (RGV16), Green (RoHS & no Sb/Br); Manufacturer: Texas Instruments; PartNumber: OPA2673IRGVR; 2nd Harmonic(dBc): 70; 3rd Harmonic(dBc): 75; @ MHz: 10; Acl, min stable gain(V/V): 1; BW @ Acl(MHz): 600; Diff Gain(%): 0.03; Diff Phase(deg): 0.01; Iib(Max)(nA): 25000; Io(Typ)(mA): 700; Iq per channel(Max)(mA): 32; Number of Channels: 2; Slew Rate(Typ)(V/us): 3000; Sub Family: High Output Current Amplifier (>=50mA), High Speed Amplifier (>=50MHz); Vio(Max)(mV): 7; Vn at Flatband(Typ)(nV/rtHz): 2.4; Vs(Max)(V): 13; DatasheetVersion: SBOS382F; PackageVersion: 4203497/F, 06/2011; PackageReference: RGV16-2160X2160TP; PackageDescription: 16-Pin Plastic Quad Flatpack No-Lead, Body 4 x 4 mm, Pitch 0.65 mm; Supplier 1: Digi-Key; Supplier Part Number 1: OPA2673IRGVR-ND; Supplier 2: Mouser; Supplier Part Number 2: 595-OPA2673IRGVR; Eco-Plan: Green (RoHS & no Sb/Br); Vs(Min)(V): 7; Mounting Technology: Surface Mount; Code_JEDEC: MO-220; ComponentLink1Description: Manufacturer URL; ComponentLink1URL: http://www.ti.com/; ComponentLink2Description: Datasheet; ComponentLink2URL: http://www.ti.com/general/docs/lit/getliterature.tsp?genericPartNumber=OPA2673&fileType=pdf; ComponentLink3Description: Package Specification; ComponentLink3URL: http://www.ti.com/litv/pdf/mpqf121e
footprint TI-RGV16-2160X2160TP_V (QFN, 16-Leads, Body 4x4mm, Pitch 0.65mm, Thermal Pad 2.16 x 2.16mm)
part A pins: 2 IN A- (in), 3 IN A+ (in), 4 GND (power), 7 VS- (power), 8 A0 (in), 9 A1 (in), 10 IN B+ (in), 11 IN B- (in), 13 OUT B (out), 14 VS+ (power), 16 OUT A (out), 17 EP
part B pins: 1 NC, 5 NC, 6 NC, 12 NC, 15 NC

## OPA2673IRGVRG4
designator U?
Dual, Wideband, High Output Current Operational Amplifier with Active Off-Line Control, 7 to 13 V, -40 to 85 degC, 16-pin QFN (RGV16), Green (RoHS & no Sb/Br); Manufacturer: Texas Instruments; PartNumber: OPA2673IRGVRG4; 2nd Harmonic(dBc): 70; 3rd Harmonic(dBc): 75; @ MHz: 10; Acl, min stable gain(V/V): 1; BW @ Acl(MHz): 600; Diff Gain(%): 0.03; Diff Phase(deg): 0.01; Iib(Max)(nA): 25000; Io(Typ)(mA): 700; Iq per channel(Max)(mA): 32; Number of Channels: 2; Slew Rate(Typ)(V/us): 3000; Sub Family: High Output Current Amplifier (>=50mA), High Speed Amplifier (>=50MHz); Vio(Max)(mV): 7; Vn at Flatband(Typ)(nV/rtHz): 2.4; Vs(Max)(V): 13; DatasheetVersion: SBOS382F; PackageVersion: 4203497/F, 06/2011; PackageReference: RGV16-2160X2160TP; PackageDescription: 16-Pin Plastic Quad Flatpack No-Lead, Body 4 x 4 mm, Pitch 0.65 mm; Supplier 1: Digi-Key; Supplier Part Number 1: OPA2673IRGVRG4-ND; Supplier 2: Mouser; Supplier Part Number 2: 595-OPA2673IRGVRG4; Eco-Plan: Green (RoHS & no Sb/Br); Vs(Min)(V): 7; Mounting Technology: Surface Mount; Code_JEDEC: MO-220; ComponentLink1Description: Manufacturer URL; ComponentLink1URL: http://www.ti.com/; ComponentLink2Description: Datasheet; ComponentLink2URL: http://www.ti.com/general/docs/lit/getliterature.tsp?genericPartNumber=OPA2673&fileType=pdf; ComponentLink3Description: Package Specification; ComponentLink3URL: http://www.ti.com/litv/pdf/mpqf121e
footprint TI-RGV16-2160X2160TP_V (QFN, 16-Leads, Body 4x4mm, Pitch 0.65mm, Thermal Pad 2.16 x 2.16mm)
part A pins: 2 IN A- (in), 3 IN A+ (in), 4 GND (power), 7 VS- (power), 8 A0 (in), 9 A1 (in), 10 IN B+ (in), 11 IN B- (in), 13 OUT B (out), 14 VS+ (power), 16 OUT A (out), 17 EP
part B pins: 1 NC, 5 NC, 6 NC, 12 NC, 15 NC

## OPA2673IRGVT
designator U?
Dual, Wideband, High Output Current Operational Amplifier with Active Off-Line Control, 7 to 13 V, -40 to 85 degC, 16-pin QFN (RGV16), Green (RoHS & no Sb/Br); Manufacturer: Texas Instruments; PartNumber: OPA2673IRGVT; 2nd Harmonic(dBc): 70; 3rd Harmonic(dBc): 75; @ MHz: 10; Acl, min stable gain(V/V): 1; BW @ Acl(MHz): 600; Diff Gain(%): 0.03; Diff Phase(deg): 0.01; Iib(Max)(nA): 25000; Io(Typ)(mA): 700; Iq per channel(Max)(mA): 32; Number of Channels: 2; Slew Rate(Typ)(V/us): 3000; Sub Family: High Output Current Amplifier (>=50mA), High Speed Amplifier (>=50MHz); Vio(Max)(mV): 7; Vn at Flatband(Typ)(nV/rtHz): 2.4; Vs(Max)(V): 13; DatasheetVersion: SBOS382F; PackageVersion: 4203497/F, 06/2011; PackageReference: RGV16-2160X2160TP; PackageDescription: 16-Pin Plastic Quad Flatpack No-Lead, Body 4 x 4 mm, Pitch 0.65 mm; Supplier 1: Digi-Key; Supplier Part Number 1: 296-23525-2-ND; Supplier 2: Digi-Key; Supplier Part Number 2: 296-23525-1-ND; Supplier 3: Digi-Key; Supplier Part Number 3: 296-23525-6-ND; Supplier 4: Newark; Supplier Part Number 4: 14N8519; Supplier 5: Mouser; Supplier Part Number 5: 595-OPA2673IRGVT; Eco-Plan: Green (RoHS & no Sb/Br); Vs(Min)(V): 7; Mounting Technology: Surface Mount; Code_JEDEC: MO-220; ComponentLink1Description: Manufacturer URL; ComponentLink1URL: http://www.ti.com/; ComponentLink2Description: Datasheet; ComponentLink2URL: http://www.ti.com/general/docs/lit/getliterature.tsp?genericPartNumber=OPA2673&fileType=pdf; ComponentLink3Description: Package Specification; ComponentLink3URL: http://www.ti.com/litv/pdf/mpqf121e
footprint TI-RGV16-2160X2160TP_V (QFN, 16-Leads, Body 4x4mm, Pitch 0.65mm, Thermal Pad 2.16 x 2.16mm)
part A pins: 2 IN A- (in), 3 IN A+ (in), 4 GND (power), 7 VS- (power), 8 A0 (in), 9 A1 (in), 10 IN B+ (in), 11 IN B- (in), 13 OUT B (out), 14 VS+ (power), 16 OUT A (out), 17 EP
part B pins: 1 NC, 5 NC, 6 NC, 12 NC, 15 NC

## OPA2673IRGVTG4
designator U?
Dual, Wideband, High Output Current Operational Amplifier with Active Off-Line Control, 7 to 13 V, -40 to 85 degC, 16-pin QFN (RGV16), Green (RoHS & no Sb/Br); Manufacturer: Texas Instruments; PartNumber: OPA2673IRGVTG4; 2nd Harmonic(dBc): 70; 3rd Harmonic(dBc): 75; @ MHz: 10; Acl, min stable gain(V/V): 1; BW @ Acl(MHz): 600; Diff Gain(%): 0.03; Diff Phase(deg): 0.01; Iib(Max)(nA): 55000; Io(Typ)(mA): 700; Iq per channel(Max)(mA): 32; Number of Channels: 2; Settling Time (0.1%)(Typ)(ns): 14; Slew Rate(Typ)(V/us): 3000; Sub Family: High Output Current Amplifier (>=50mA), High Speed Amplifier (>=50MHz); Vio(Max)(mV): 9; Vn at Flatband(Typ)(nV/rtHz): 2.4; Vs(Max)(V): 13; Vs(Min)(V): 7; DatasheetVersion: SBOS382F; PackageVersion: 4203497/F, 06/2011; PackageReference: RGV16-2160X2160TP; PackageDescription: 16-Pin Plastic Quad Flatpack No-Lead, Body 4 x 4 mm, Pitch 0.65 mm; Supplier 1: Digi-Key; Supplier Part Number 1: OPA2673IRGVTG4-ND; Supplier 2: Mouser; Supplier Part Number 2: 595-OPA2673IRGVTG4; Eco-Plan: Green (RoHS & no Sb/Br); Mounting Technology: Surface Mount; Code_JEDEC: MO-220; ComponentLink1Description: Manufacturer URL; ComponentLink1URL: http://www.ti.com/; ComponentLink2Description: Datasheet; ComponentLink2URL: http://www.ti.com/general/docs/lit/getliterature.tsp?genericPartNumber=OPA2673&fileType=pdf; ComponentLink3Description: Package Specification; ComponentLink3URL: http://www.ti.com/litv/pdf/mpqf121e
footprint TI-RGV16-2160X2160TP_V (QFN, 16-Leads, Body 4x4mm, Pitch 0.65mm, Thermal Pad 2.16 x 2.16mm)
part A pins: 2 IN A- (in), 3 IN A+ (in), 4 GND (power), 7 VS- (power), 8 A0 (in), 9 A1 (in), 10 IN B+ (in), 11 IN B- (in), 13 OUT B (out), 14 VS+ (power), 16 OUT A (out), 17 EP
part B pins: 1 NC, 5 NC, 6 NC, 12 NC, 15 NC

## OPA2674I-14D
designator U?
Dual Wideband, High Output Current, Operational Amplifier with Current Limit, 5 to 12 V, -40 to 85 degC, 14-pin SOIC (D14), Green (RoHS & no Sb/Br); Manufacturer: Texas Instruments; PartNumber: OPA2674I-14D; 2nd Harmonic(dBc): 82; 3rd Harmonic(dBc): 93; @ MHz: 5; Acl, min stable gain(V/V): 1; BW @ Acl(MHz): 250; Diff Gain(%): 0.03; Diff Phase(deg): 0.01; Iib(Max)(nA): 35000; Io(Typ)(mA): 500; Iq per channel(Max)(mA): 19.2; Number of Channels: 2; Slew Rate(Typ)(V/us): 2000; Sub Family: High Output Current Amplifier (>=50mA), High Speed Amplifier (>=50MHz); THD (Fc is 1 MHz)(Typ)(dB): -86; Vs(Max)(V): 12; DatasheetVersion: SBOS270C; PackageVersion: 4040047-5/M, 06/2011; PackageReference: D14; PackageDescription: 14-Pin Plastic Small Outline, Body 8.65 x 3.9 mm, Pitch 1.27 mm; Supplier 1: Digi-Key; Supplier Part Number 1: 296-15211-5-ND; Supplier 2: Newark; Supplier Part Number 2: 73H4295; Supplier 3: Mouser; Supplier Part Number 3: 595-OPA2674I-14D; Eco-Plan: Green (RoHS & no Sb/Br); Vio(Max)(mV): 1; Vn at Flatband(Typ)(nV/rtHz): 2; Vs(Min)(V): 5; Mounting Technology: Surface Mount; Code_JEDEC: MS-012; ComponentLink1Description: Manufacturer URL; ComponentLink1URL: http://www.ti.com/; ComponentLink2Description: Datasheet; ComponentLink2URL: http://www.ti.com/general/docs/lit/getliterature.tsp?genericPartNumber=OPA2674&fileType=pdf; ComponentLink3Description: Package Specification; ComponentLink3URL: http://www.ti.com/lit/ml/mpds177g/mpds177g.pdf
footprint TI-D14_N (SOIC, 14-Leads, Body 8.65x3.9mm, Pitch 1.27mm, IPC Medium Density)
footprint TI-D14_L (SOIC, 14-Leads, Body 8.65x3.9mm, Pitch 1.27mm, IPC High Density)
footprint TI-D14_M (SOIC, 14-Leads, Body 8.65x3.9mm, Pitch 1.27mm, IPC Low Density)
part A pins: 1 IN A- (in), 2 IN A+ (in), 14 OUT A (hiz)
part B pins: 6 IN B+ (in), 7 IN B- (in), 8 OUT B (hiz)
part C pins: 3 A0 (in), 4 VS- (power), 5 A1 (in), 9 NC, 10 NC, 11 VS+ (power), 12 NC, 13 NC

## OPA2674I-14DG4
designator U?
Dual Wideband, High Output Current, Operational Amplifier with Current Limit, 5 to 12 V, -40 to 85 degC, 14-pin SOIC (D14), Green (RoHS & no Sb/Br); Manufacturer: Texas Instruments; PartNumber: OPA2674I-14DG4; 2nd Harmonic(dBc): 82; 3rd Harmonic(dBc): 93; @ MHz: 5; Acl, min stable gain(V/V): 1; BW @ Acl(MHz): 250; Diff Gain(%): 0.03; Diff Phase(deg): 0.01; Iib(Max)(nA): 35000; Io(Typ)(mA): 500; Iq per channel(Max)(mA): 19.2; Number of Channels: 2; Slew Rate(Typ)(V/us): 2000; Sub Family: High Output Current Amplifier (>=50mA), High Speed Amplifier (>=50MHz); THD (Fc is 1 MHz)(Typ)(dB): -86; Vs(Max)(V): 12; DatasheetVersion: SBOS270C; PackageVersion: 4040047-5/M, 06/2011; PackageReference: D14; PackageDescription: 14-Pin Plastic Small Outline, Body 8.65 x 3.9 mm, Pitch 1.27 mm; Supplier 1: Digi-Key; Supplier Part Number 1: OPA2674I-14DG4-ND; Supplier 2: Farnell; Supplier Part Number 2: 1207105; Supplier 3: Newark; Supplier Part Number 3: 97K6816; Supplier 4: Mouser; Supplier Part Number 4: 595-OPA2674I-14DG4; Eco-Plan: Green (RoHS & no Sb/Br); Vio(Max)(mV): 1; Vn at Flatband(Typ)(nV/rtHz): 2; Vs(Min)(V): 5; Mounting Technology: Surface Mount; Code_JEDEC: MS-012; ComponentLink1Description: Manufacturer URL; ComponentLink1URL: http://www.ti.com/; ComponentLink2Description: Datasheet; ComponentLink2URL: http://www.ti.com/general/docs/lit/getliterature.tsp?genericPartNumber=OPA2674&fileType=pdf; ComponentLink3Description: Package Specification; ComponentLink3URL: http://www.ti.com/lit/ml/mpds177g/mpds177g.pdf
footprint TI-D14_N (SOIC, 14-Leads, Body 8.65x3.9mm, Pitch 1.27mm, IPC Medium Density)
footprint TI-D14_L (SOIC, 14-Leads, Body 8.65x3.9mm, Pitch 1.27mm, IPC High Density)
footprint TI-D14_M (SOIC, 14-Leads, Body 8.65x3.9mm, Pitch 1.27mm, IPC Low Density)
part A pins: 1 IN A- (in), 2 IN A+ (in), 14 OUT A (hiz)
part B pins: 6 IN B+ (in), 7 IN B- (in), 8 OUT B (hiz)
part C pins: 3 A0 (in), 4 VS- (power), 5 A1 (in), 9 NC, 10 NC, 11 VS+ (power), 12 NC, 13 NC

## OPA2674I-14DR
designator U?
Dual Wideband, High Output Current, Operational Amplifier with Current Limit, 5 to 12 V, -40 to 85 degC, 14-pin SOIC (D14), Green (RoHS & no Sb/Br); Manufacturer: Texas Instruments; PartNumber: OPA2674I-14DR; 2nd Harmonic(dBc): 82; 3rd Harmonic(dBc): 93; @ MHz: 5; Acl, min stable gain(V/V): 1; BW @ Acl(MHz): 250; Diff Gain(%): 0.03; Diff Phase(deg): 0.01; Iib(Max)(nA): 35000; Io(Typ)(mA): 500; Iq per channel(Max)(mA): 19.2; Number of Channels: 2; Slew Rate(Typ)(V/us): 2000; Sub Family: High Output Current Amplifier (>=50mA), High Speed Amplifier (>=50MHz); THD (Fc is 1 MHz)(Typ)(dB): -86; Vs(Max)(V): 12; DatasheetVersion: SBOS270C; PackageVersion: 4040047-5/M, 06/2011; PackageReference: D14; PackageDescription: 14-Pin Plastic Small Outline, Body 8.65 x 3.9 mm, Pitch 1.27 mm; Supplier 1: Digi-Key; Supplier Part Number 1: 296-19413-2-ND; Supplier 2: Digi-Key; Supplier Part Number 2: 296-19413-1-ND; Supplier 3: Digi-Key; Supplier Part Number 3: 296-19413-6-ND; Supplier 4: Mouser; Supplier Part Number 4: 595-OPA2674I-14DR; Eco-Plan: Green (RoHS & no Sb/Br); Vio(Max)(mV): 1; Vn at Flatband(Typ)(nV/rtHz): 2; Vs(Min)(V): 5; Mounting Technology: Surface Mount; Code_JEDEC: MS-012; ComponentLink1Description: Manufacturer URL; ComponentLink1URL: http://www.ti.com/; ComponentLink2Description: Datasheet; ComponentLink2URL: http://www.ti.com/general/docs/lit/getliterature.tsp?genericPartNumber=OPA2674&fileType=pdf; ComponentLink3Description: Package Specification; ComponentLink3URL: http://www.ti.com/lit/ml/mpds177g/mpds177g.pdf
footprint TI-D14_N (SOIC, 14-Leads, Body 8.65x3.9mm, Pitch 1.27mm, IPC Medium Density)
footprint TI-D14_L (SOIC, 14-Leads, Body 8.65x3.9mm, Pitch 1.27mm, IPC High Density)
footprint TI-D14_M (SOIC, 14-Leads, Body 8.65x3.9mm, Pitch 1.27mm, IPC Low Density)
part A pins: 1 IN A- (in), 2 IN A+ (in), 14 OUT A (hiz)
part B pins: 6 IN B+ (in), 7 IN B- (in), 8 OUT B (hiz)
part C pins: 3 A0 (in), 4 VS- (power), 5 A1 (in), 9 NC, 10 NC, 11 VS+ (power), 12 NC, 13 NC

## OPA2674I-14DRG4
designator U?
Dual Wideband, High Output Current, Operational Amplifier with Current Limit, 5 to 12 V, -40 to 85 degC, 14-pin SOIC (D14), Green (RoHS & no Sb/Br); Manufacturer: Texas Instruments; PartNumber: OPA2674I-14DRG4; 2nd Harmonic(dBc): 82; 3rd Harmonic(dBc): 93; @ MHz: 5; Acl, min stable gain(V/V): 1; BW @ Acl(MHz): 250; Diff Gain(%): 0.03; Diff Phase(deg): 0.01; Iib(Max)(nA): 35000; Io(Typ)(mA): 500; Iq per channel(Max)(mA): 19.2; Number of Channels: 2; Slew Rate(Typ)(V/us): 2000; Sub Family: High Output Current Amplifier (>=50mA), High Speed Amplifier (>=50MHz); THD (Fc is 1 MHz)(Typ)(dB): -86; Vs(Max)(V): 12; DatasheetVersion: SBOS270C; PackageVersion: 4040047-5/M, 06/2011; PackageReference: D14; PackageDescription: 14-Pin Plastic Small Outline, Body 8.65 x 3.9 mm, Pitch 1.27 mm; Supplier 1: Digi-Key; Supplier Part Number 1: OPA2674I-14DRG4-ND; Supplier 2: Mouser; Supplier Part Number 2: 595-OPA2674I-14DRG4; Eco-Plan: Green (RoHS & no Sb/Br); Vio(Max)(mV): 1; Vn at Flatband(Typ)(nV/rtHz): 2; Vs(Min)(V): 5; Mounting Technology: Surface Mount; Code_JEDEC: MS-012; ComponentLink1Description: Manufacturer URL; ComponentLink1URL: http://www.ti.com/; ComponentLink2Description: Datasheet; ComponentLink2URL: http://www.ti.com/general/docs/lit/getliterature.tsp?genericPartNumber=OPA2674&fileType=pdf; ComponentLink3Description: Package Specification; ComponentLink3URL: http://www.ti.com/lit/ml/mpds177g/mpds177g.pdf
footprint TI-D14_N (SOIC, 14-Leads, Body 8.65x3.9mm, Pitch 1.27mm, IPC Medium Density)
footprint TI-D14_L (SOIC, 14-Leads, Body 8.65x3.9mm, Pitch 1.27mm, IPC High Density)
footprint TI-D14_M (SOIC, 14-Leads, Body 8.65x3.9mm, Pitch 1.27mm, IPC Low Density)
part A pins: 1 IN A- (in), 2 IN A+ (in), 14 OUT A (hiz)
part B pins: 6 IN B+ (in), 7 IN B- (in), 8 OUT B (hiz)
part C pins: 3 A0 (in), 4 VS- (power), 5 A1 (in), 9 NC, 10 NC, 11 VS+ (power), 12 NC, 13 NC